# EAGLE library part LM358 (library library)
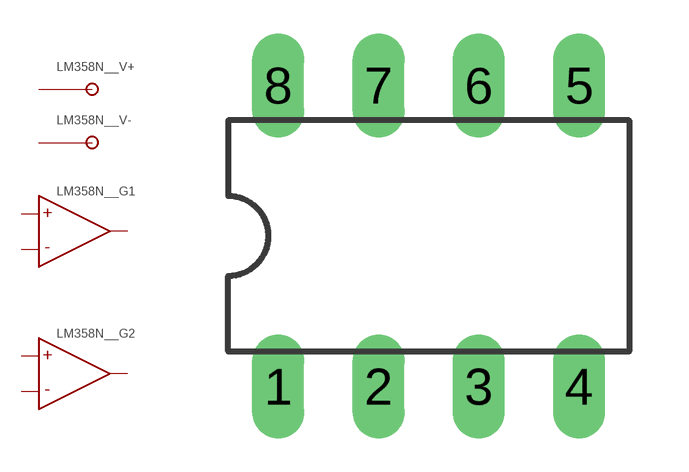
[diagram p0: symbol with the pads of DIL08; footprint DIL08]

Designator prefix LM358N_; gates _G1=OPAMP _G2=OPAMP _V+=GENERIC_PART_SUPPLY_PIN _V-=GENERIC_PART_SUPPLY_PIN

## LM358DIL8  [DIL08]
1  _G1:OUT
2  _G1:-
3  _G1:+
4  _V-:SUPPLYPIN
5  _G2:+
6  _G2:-
7  _G2:OUT
8  _V+:SUPPLYPIN

## Footprint DIL08 (pad centres in mm)
Dual In Line Package
drill 0.813 long: 1 -3.81,-3.81; 2 -1.27,-3.81; 3 1.27,-3.81; 4 3.81,-3.81; 5 3.81,3.81; 6 1.27,3.81; 7 -1.27,3.81; 8 -3.81,3.81